# EAGLE library part 1X6_GND (library LARS_409_CONNECTORS)
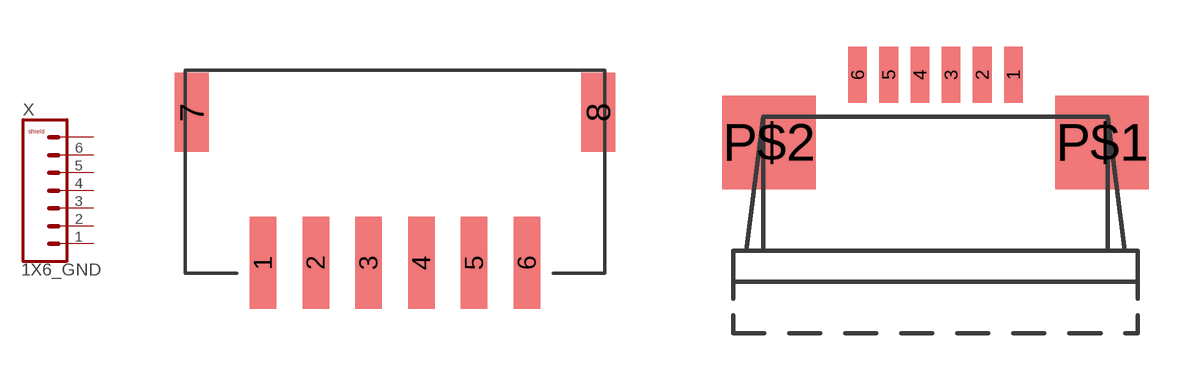
[diagram p8: symbol with the pads of S6B-PH-SM4-TB; footprints S6B-PH-SM4-TB, FFC-HOLDER-1MM-6P]

Designator prefix X

## 1X6_GNDPH_H  [S6B-PH-SM4-TB]
1  1  pas
2  2  pas
3  3  pas
4  4  pas
5  5  pas
6  6  pas
7  7  pas
8  7  pas

## 1X6_GND  [FFC-HOLDER-1MM-6P]
1  1  pas
2  2  pas
3  3  pas
4  4  pas
5  5  pas
6  6  pas
P$1  7  pas
P$2  7  pas

## 1X6_GNDHDGC1.0K-GL-6PB  [HDGC1.0K-GL-6PB]
Pads as for S6B-PH-SM4-TB

## Footprint S6B-PH-SM4-TB (pad centres in mm)
smd 1 x 3.5: 1 -5,0.5; 2 -3,0.5; 3 -1,0.5; 4 1,0.5; 5 3,0.5; 6 5,0.5
smd 1.3 x 3: 7 -7.7,6.2; 8 7.7,6.2

## Footprint FFC-HOLDER-1MM-6P (pad centres in mm)
smd 0.6 x 1.8: 1 2.5,2.875; 2 1.5,2.875; 3 0.5,2.875; 4 -0.5,2.875; 5 -1.5,2.875; 6 -2.5,2.875
smd 3 x 3: P$1 5.35,0.705; P$2 -5.35,0.705

## Footprint HDGC1.0K-GL-6PB (pad centres in mm)
smd 0.5 x 1.5: 1 -2.5,-1.65; 2 -1.5,1.65; 3 -0.5,-1.65; 4 0.5,1.65; 5 1.5,-1.65; 6 2.5,1.65
smd 2 x 1.6: 7 -4.9,0; 8 4.9,0